# Altium schematic symbol library W25X05CLSNIG.Schlib: 1 symbol
Pins are listed as number, name and electrical type; pins without a type are passive.

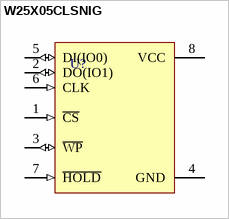
[diagram p0: symbol W25X05CLSNIG]

## W25X05CLSNIG
designator U?
NOR Flash Memory
pins: 1 ~{CS} (in), 2 DO(IO1) (io), 3 ~{WP} (io), 4 GND (power), 5 DI(IO0) (io), 6 CLK (in), 7 ~{HOLD} (in), 8 VCC (power)